# EAGLE library part ADUM3223 (library Shohei)
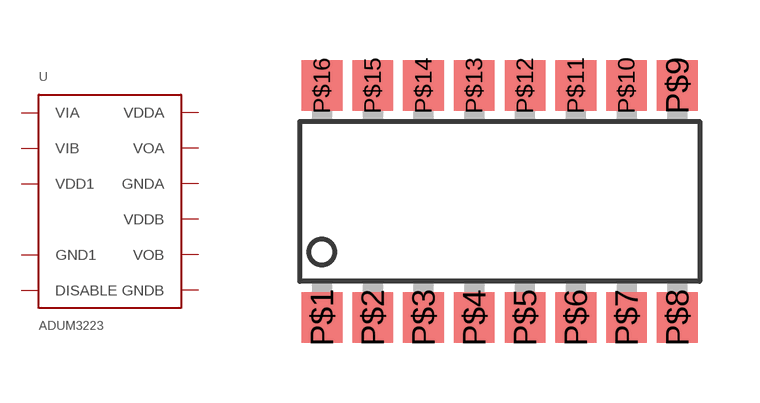
[diagram p31: symbol with the pads of SOIC16_N; footprint SOIC16_N]

Designator prefix U

## ADUM3223_SMD  [SOIC16_N]
P$1  VIA
P$2  VIB
P$3  VDD1
P$4  GND1
P$5  DISABLE
P$8  VDD1
P$9  GNDB
P$10  VOB
P$11  VDDB
P$14  GNDA
P$15  VOA
P$16  VDDA

## Footprint SOIC16_N (pad centres in mm)
smd 1.016 x 1.27: P$1 -4.445,-2.9; P$2 -3.175,-2.9; P$3 -1.905,-2.9; P$4 -0.635,-2.9; P$5 0.635,-2.9; P$6 1.905,-2.9; P$7 3.175,-2.9; P$8 4.445,-2.9; P$9 4.445,2.9; P$10 3.175,2.9; P$11 1.905,2.9; P$12 0.635,2.9; P$13 -0.635,2.9; P$14 -1.905,2.9; P$15 -3.175,2.9; P$16 -4.445,2.9